# Altium footprint library Pentagon.PcbLib: 17 footprints (part 2 of 2)
Each footprint in its own frame and in the unit in brackets; x right, y up, seen from the top. Pads: shape width x height; smd on the part's side, far side on the other; paste and mask are expansions set on the pad; w line width, h text height; cw(c..) or ccw(c..) is an arc to the next point about the centre after c.
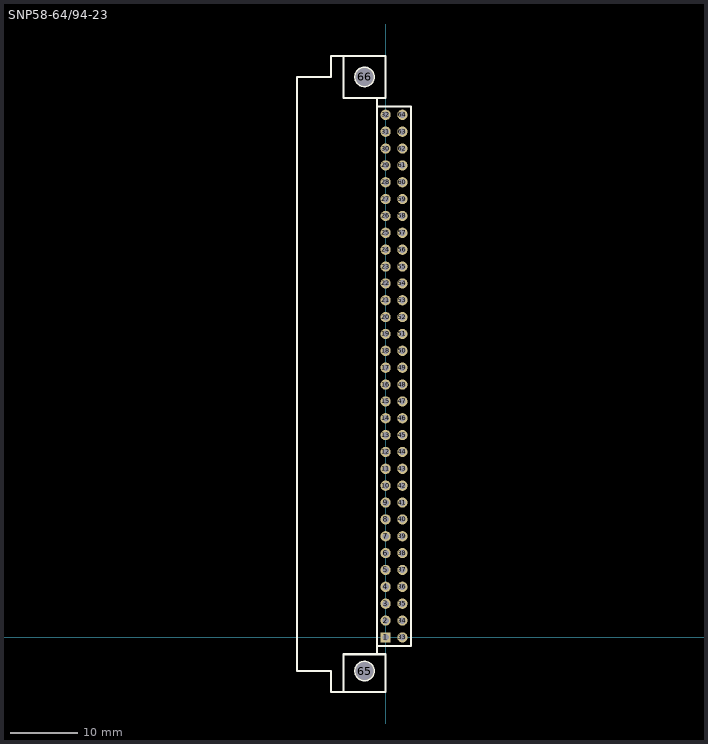
[diagram p1: the footprint, top view; thin cyan lines are the x and y axes]

## SNP58-64/94-23 [mm]
pads (66):
  rect 1.524x1.524 hole 0.965: 1(0,0)
  round 1.524 hole 0.965: 2(0,2.5) 3(0,5) 4(0,7.5) 5(0,10) 6(0,12.5) 7(0,15) 8(0,17.5) 9(0,20) 10(0,22.5) 11(0,25) 12(0,27.5) 13(0,30) 14(0,32.5) 15(0,35) 16(0,37.5) 17(0,40) 18(0,42.5) 19(0,45) 20(0,47.5) 21(0,50) 22(0,52.5) 23(0,55) 24(0,57.5) 25(0,60) 26(0,62.5) 27(0,65) 28(0,67.5) 29(0,70) 30(0,72.5) 31(0,75) 32(0,77.5) 33(2.5,0) 34(2.5,2.5) 35(2.5,5) 36(2.5,7.5) 37(2.5,10) 38(2.5,12.5) 39(2.5,15) 40(2.5,17.5) 41(2.5,20) 42(2.5,22.5) 43(2.5,25) 44(2.5,27.5) 45(2.5,30) 46(2.5,32.5) 47(2.5,35) 48(2.5,37.5) 49(2.5,40) 50(2.5,42.5) 51(2.5,45) 52(2.5,47.5) 53(2.5,50) 54(2.5,52.5) 55(2.5,55) 56(2.5,57.5) 57(2.5,60) 58(2.5,62.5) 59(2.5,65) 60(2.5,67.5) 61(2.5,70) 62(2.5,72.5) 63(2.5,75) 64(2.5,77.5)
  round 2.7 hole 2.7 unplated: 65(-3.125,-5) 66(-3.125,83.125)
Top Overlay:
  circle w0.3: c-3.125,-5 r1.4
  circle w0.3: c-3.125,83.125 r1.4
  lines w0.3: -6.25,-8.125 -6.25,-2.5 0,-2.5 0,-8.125 -8.125,-8.125 -8.125,-5 -13.125,-5 -13.125,83.125 -8.125,83.125 -8.125,86.25 0,86.25 0,80 -6.25,80 -6.25,86.25 ; -1.25,-2.5 -1.25,80 ; -1.25,-1.25 3.75,-1.25 3.75,78.75 -1.25,78.75